# Altium footprint library Resistor_SMD.PcbLib: 3 footprints
Each footprint in its own frame and in the unit in brackets; x right, y up, seen from the top. Pads: shape width x height; smd on the part's side, far side on the other; paste and mask are expansions set on the pad; w line width, h text height; cw(c..) or ccw(c..) is an arc to the next point about the centre after c.
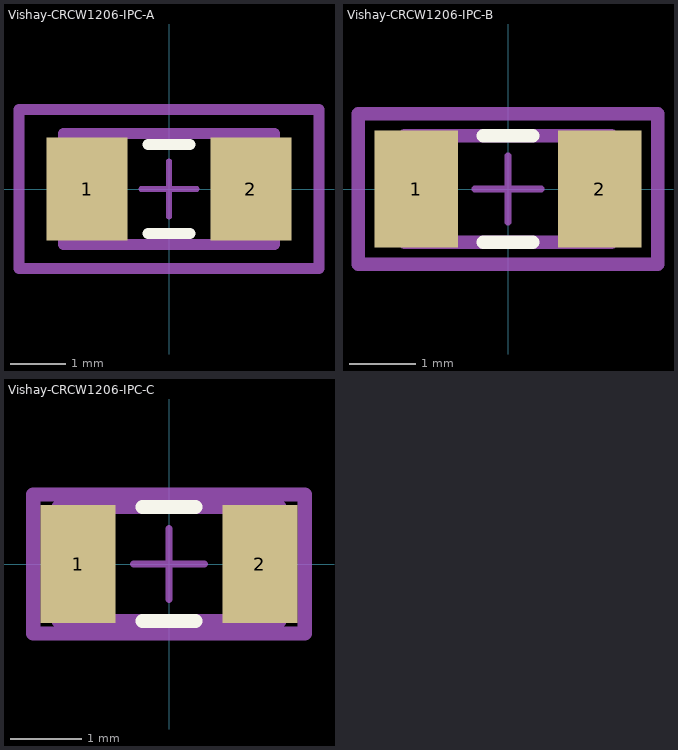
[diagram p0: the footprints below, top view; thin cyan lines are the x and y axes]

## Vishay-CRCW1206-IPC-A [mm] "Resistor SMD 1206 (3216 Metric)"
pads (2):
  rect 1.455x1.858 smd paste+0 mask+0: 1(-1.476,0) 2(1.476,0)
Top Overlay:
  lines w0.2: -0.373,-0.8 0.373,-0.8 ; -0.373,0.8 0.373,0.8
Top Courtyard:
  lines w0.1: -2.703,-1.429 2.703,-1.429 2.703,1.429 -2.703,1.429 -2.703,-1.429
Top Component Center:
  lines w0.1: -0.5,0 0.5,0 ; 0,-0.5 0,0.5
Top Component Outline:
  lines w0.2: -1.9,-1 1.9,-1 1.9,1 -1.9,1 -1.9,-1
Top Assembly:
  lines w0.2: -2.703,-1.429 2.703,-1.429 2.703,1.429 -2.703,1.429 -2.703,-1.429
Top Designator:
  text ".Designator" at -7.618,-0.508 h1.52
3D body "Res_Vishay_Dale_CRCW120610K0FKEAHP_eec.STEP": height 0.25, standoff 0, extent -2.703,-1.429 2.703,1.429

## Vishay-CRCW1206-IPC-B [mm] "Resistor SMD 1206 (3216 Metric)"
pads (2):
  rect 1.255x1.758 smd paste+0 mask+0: 1(-1.376,0) 2(1.376,0)
Top Overlay:
  lines w0.2: -0.373,-0.8 0.373,-0.8 ; -0.373,0.8 0.373,0.8
Top Courtyard:
  lines w0.1: -2.253,-1.129 2.253,-1.129 2.253,1.129 -2.253,1.129 -2.253,-1.129
Top Component Center:
  lines w0.1: -0.5,0 0.5,0 ; 0,-0.5 0,0.5
Top Component Outline:
  lines w0.2: -1.55,-0.8 1.55,-0.8 1.55,0.8 -1.55,0.8 -1.55,-0.8
Top Assembly:
  lines w0.2: -2.253,-1.129 2.253,-1.129 2.253,1.129 -2.253,1.129 -2.253,-1.129
Top Designator:
  text ".Designator" at -7.618,-0.508 h1.52
3D body "Res_Vishay_Dale_CRCW120610K0FKEAHP_eec.STEP": height 0.25, standoff 0, extent -2.253,-1.129 2.253,1.129

## Vishay-CRCW1206-IPC-C [mm] "Resistor SMD 1206 (3216 Metric)"
pads (2):
  rect 1.055x1.658 smd paste+0 mask+0: 1(-1.276,0) 2(1.276,0)
Top Overlay:
  lines w0.2: -0.373,-0.8 0.373,-0.8 ; -0.373,0.8 0.373,0.8
Top Courtyard:
  lines w0.1: -1.903,-0.975 1.903,-0.975 1.903,0.975 -1.903,0.975 -1.903,-0.975
Top Component Center:
  lines w0.1: -0.5,0 0.5,0 ; 0,-0.5 0,0.5
Top Component Outline:
  lines w0.2: -1.55,-0.8 -1.55,0.8 1.55,0.8 1.55,-0.8 -1.55,-0.8
Top Assembly:
  lines w0.2: -1.903,-0.975 1.903,-0.975 1.903,0.975 -1.903,0.975 -1.903,-0.975
Top Designator:
  text ".Designator" at -7.618,-0.508 h1.52
3D body "Res_Vishay_Dale_CRCW120610K0FKEAHP_eec.STEP": height 0.25, standoff 0, extent -1.903,-0.975 1.903,0.975